# Altium schematic symbol library ATTiny817.SchLib: 2 symbols
Pins are listed as number, name and electrical type; pins without a type are passive.

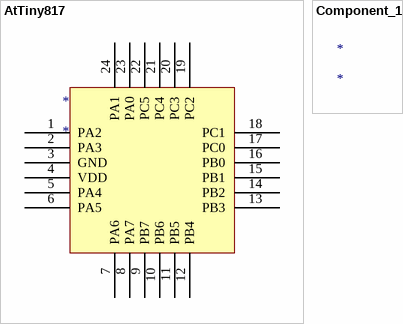
[diagram p0: symbols AtTiny817 to Component_1]

## AtTiny817
designator *
footprint QFN50P400X400X90_HS-25N (QFN, 24-Leads, Body 4,00x4,00mm, Pitch 0,50mm, Thermal Pad 2,60x2,60mm, IPC Medium Density)
pins: 1 PA2, 2 PA3, 3 GND, 4 VDD, 5 PA4, 6 PA5, 7 PA6, 8 PA7, 9 PB7, 10 PB6, 11 PB5, 12 PB4, 13 PB3, 14 PB2, 15 PB1, 16 PB0, 17 PC0, 18 PC1, 19 PC2, 20 PC3, 21 PC4, 22 PC5, 23 PA0, 24 PA1

## Component_1
designator *